# EAGLE library part TSL2671 (library BEEP)
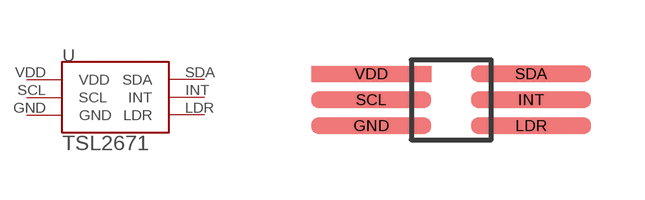
[diagram p1: symbol with the pads of TSL2671; footprint TSL2671]

Designator prefix -

## TSL2671  [TSL2671]
GND  GND  pwr
INT  INT  out
LDR  LDR  pwr
SCL  SCL
SDA  SDA
VDD  VDD  pwr

## Footprint TSL2671 (pad centres in mm)
smd 3 x 0.4: GND -2,-0.65; INT 2,0; LDR 2,-0.65; SCL -2,0; SDA 2,0.65; VDD -2,0.65